# Altium schematic symbol library TPS56220x.Schlib: 1 symbol
Pins are listed as number, name and electrical type; pins without a type are passive.

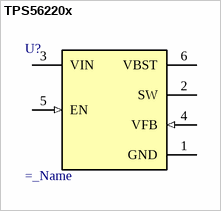
[diagram p0: symbol TPS56220x]

## TPS56220x
designator U?  (value not drawn)
=description; Value: =_Name
pins: 1 GND (power), 2 SW, 3 VIN (power), 4 VFB (in), 5 EN (in), 6 VBST (power)